# Altium footprint library aroshaD.PcbLib: 57 footprints (part 3 of 4)
Each footprint in its own frame and in the unit in brackets; x right, y up, seen from the top. Pads: shape width x height; smd on the part's side, far side on the other; paste and mask are expansions set on the pad; w line width, h text height; cw(c..) or ccw(c..) is an arc to the next point about the centre after c.
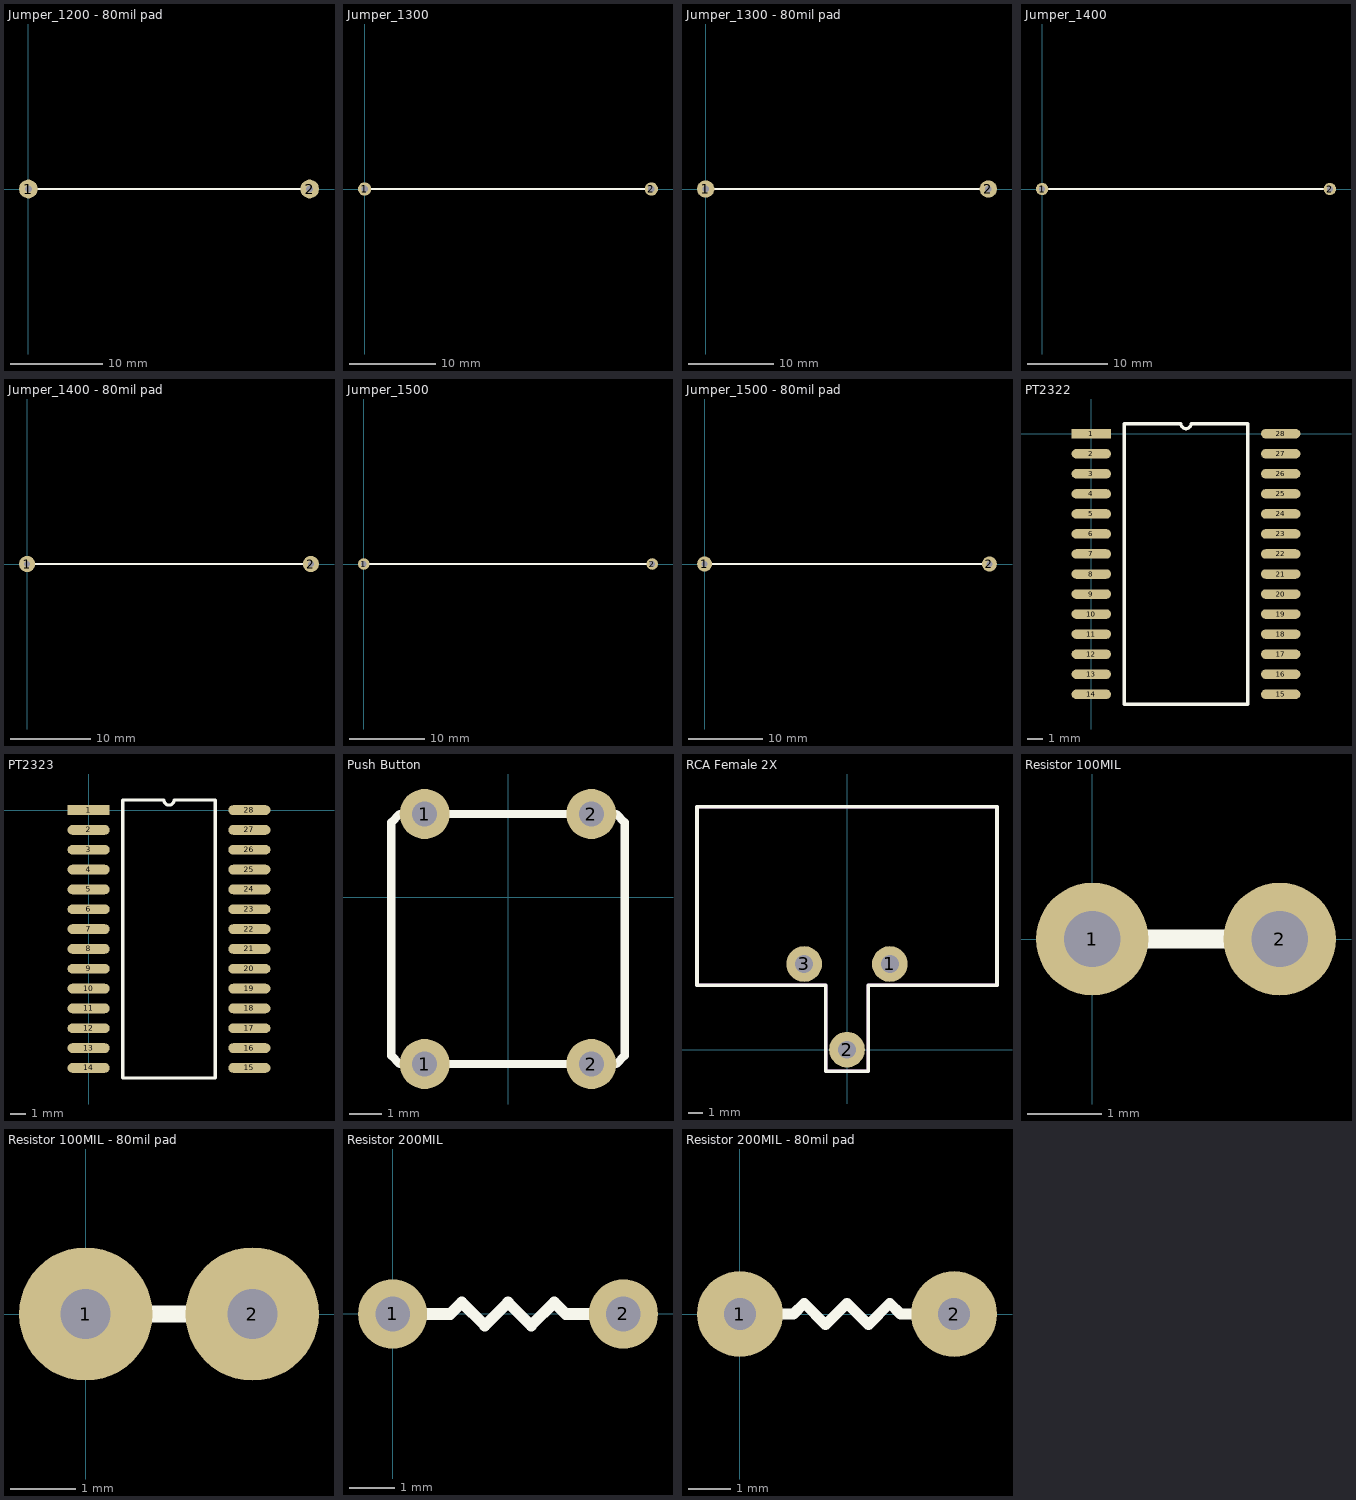
[diagram p2: the footprints below, top view; thin cyan lines are the x and y axes]

## Jumper_1200 - 80mil pad [mil]
pads (2):
  round 80 hole 30: 1(0,0) 2(1200,0)
Top Overlay:
  lines w10: 0,0 1200,0

## Jumper_1300 [mil]
pads (2):
  round 60 hole 30: 1(0,0) 2(1300,0)
Top Overlay:
  lines w10: 0,0 1300,0

## Jumper_1300 - 80mil pad [mil]
pads (2):
  round 80 hole 30: 1(0,0) 2(1300,0)
Top Overlay:
  lines w10: 0,0 1300,0

## Jumper_1400 [mil]
pads (2):
  round 60 hole 30: 1(0,0) 2(1400,0)
Top Overlay:
  lines w10: 0,0 1400,0

## Jumper_1400 - 80mil pad [mil]
pads (2):
  round 80 hole 30: 1(0,0) 2(1400,0)
Top Overlay:
  lines w10: 0,0 1400,0

## Jumper_1500 [mil]
pads (2):
  round 60 hole 30: 1(0,0) 2(1500,0)
Top Overlay:
  lines w10: 0,0 1500,0

## Jumper_1500 - 80mil pad [mil]
pads (2):
  round 80 hole 30: 1(0,0) 2(1500,0)
Top Overlay:
  lines w10: 0,0 1500,0

## PCBComponent_1 [mil]

## PT2322 [mm]
pads (28):
  rect 2.5x0.6 smd: 1(0,0)
  oval 2.5x0.6 smd: 2(0,-1.27) 3(0,-2.54) 4(0,-3.81) 5(0,-5.08) 6(0,-6.35) 7(0,-7.62) 8(0,-8.89) 9(0,-10.16) 10(0,-11.43) 11(0,-12.7) 12(0,-13.97) 13(0,-15.24) 14(0,-16.51) 15(12,-16.51) 16(12,-15.24) 17(12,-13.97) 18(12,-12.7) 19(12,-11.43) 20(12,-10.16) 21(12,-8.89) 22(12,-7.62) 23(12,-6.35) 24(12,-5.08) 25(12,-3.81) 26(12,-2.54) 27(12,-1.27) 28(12,0)
Top Overlay:
  lines w0.2: 2.085,-17.145 9.915,-17.145 9.915,0.635 6.317,0.635 cw(c6,0.635) 5.682,0.635 2.085,0.635 2.085,-17.145

## PT2323 [mm]
pads (28):
  rect 2.7x0.62 smd: 1(0,0)
  oval 2.7x0.62 smd: 2(0,-1.27) 3(0,-2.54) 4(0,-3.81) 5(0,-5.08) 6(0,-6.35) 7(0,-7.62) 8(0,-8.89) 9(0,-10.16) 10(0,-11.43) 11(0,-12.7) 12(0,-13.97) 13(0,-15.24) 14(0,-16.51) 15(10.3,-16.51) 16(10.3,-15.24) 17(10.3,-13.97) 18(10.3,-12.7) 19(10.3,-11.43) 20(10.3,-10.16) 21(10.3,-8.89) 22(10.3,-7.62) 23(10.3,-6.35) 24(10.3,-5.08) 25(10.3,-3.81) 26(10.3,-2.54) 27(10.3,-1.27) 28(10.3,0)
Top Overlay:
  lines w0.2: 2.185,-17.145 2.185,0.635 4.832,0.635 ccw(c5.15,0.635) 5.467,0.635 8.115,0.635 8.115,-17.145 2.185,-17.145

## Push Button [mil]
pads (4):
  round 60 hole 30: 1(-100,-200) 1(-100,100) 2(100,-200) 2(100,100)
Top Overlay:
  lines w10: -130,-200 -140,-190 -140,90 -130,100 ; -70,-200 70,-200 ; -70,100 70,100 ; 130,-200 140,-190 140,90 130,100

## RCA Female 2X [mil]
pads (3):
  round 100 hole 50: 1(120,240) 2(0,0) 3(-120,240)
Top Overlay:
  lines w10: -420,180 -60,180 -60,-60 60,-60 60,180 420,180 420,680 -420,680 -420,180
Mechanical 1:
  lines w10: -420,180 -60,180 -60,-60 60,-60 60,180 420,180 420,680 -420,680 -420,180

## Resistor 100MIL [mil]
pads (2):
  round 60 hole 30: 1(0,0) 2(100,0)
Top Overlay:
  lines w10: 20,0 80,0

## Resistor 100MIL - 80mil pad [mil]
pads (2):
  round 80 hole 30: 1(0,0) 2(100,0)
Top Overlay:
  lines w10: 30,0 70,0

## Resistor 200MIL [mil]
pads (2):
  round 60 hole 30: 1(0,0) 2(200,0)
Top Overlay:
  lines w10: 30,0 50,0 60,10 80,-10 100,10 120,-10 140,10 150,0 170,0

## Resistor 200MIL - 80mil pad [mil]
pads (2):
  round 80 hole 30: 1(0,0) 2(200,0)
Top Overlay:
  lines w10: 40,0 50,0 60,10 80,-10 100,10 120,-10 140,10 150,0 160,0